# Altium integrated library Transistor.IntLib: 3457 symbols (part 34 of 78)
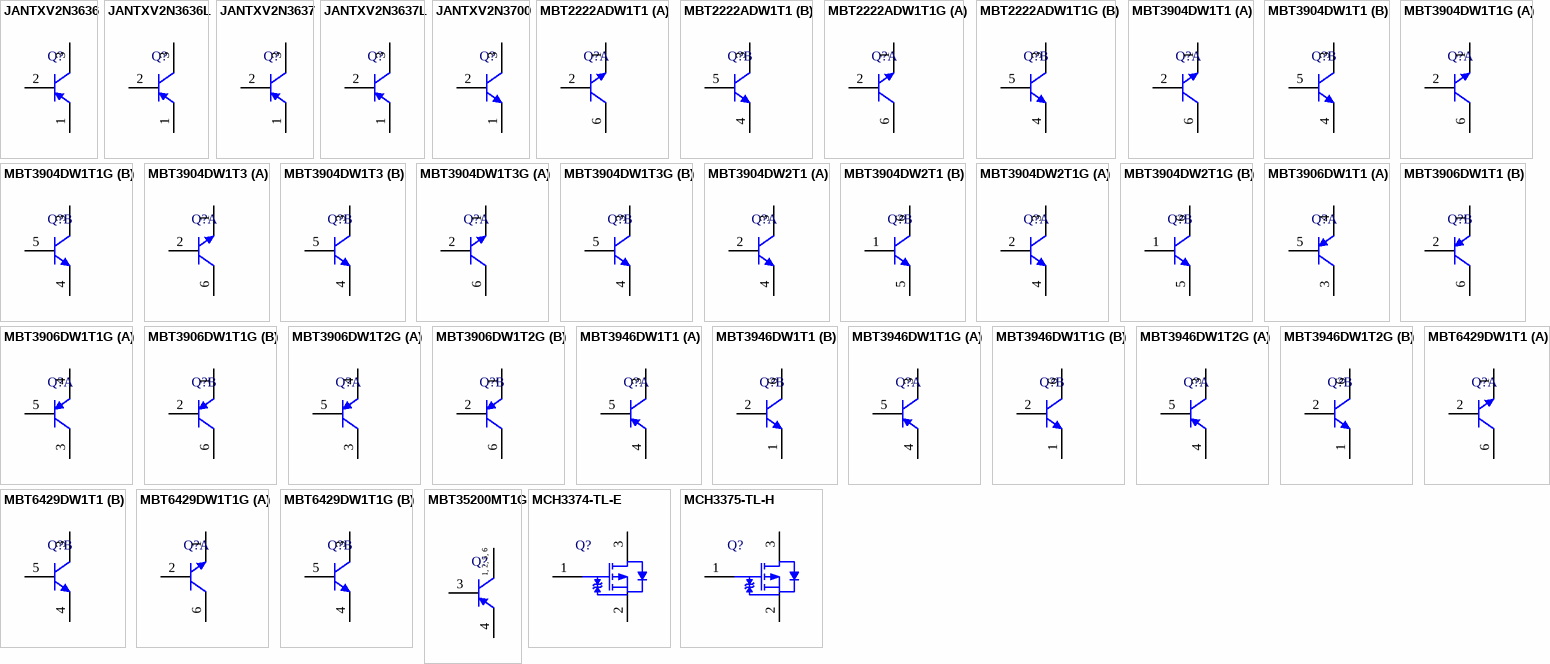
[diagram p127: symbols JANTXV2N3636 to MCH3375-TL-H]

## MBT3904DW2T1
designator Q?
Dual General Purpose Transistors, 6-Pin SOT-363, Tape and Reel; Manufacturer: On Semiconductor; PartNumber: MBT3904DW2T1; fT Min (MHz): 300; IC Continuous (A): 0.2; Polarity: Dual NPN; DatasheetVersion: Rev. 9; PackageVersion: Rev. W, 01/2006; PackageReference: SOT-363-6-419B-02_W; PackageDescription: 6-Pin Small Outline Transistor, Body 2 x 1.25 mm, Pitch 0.65 mm; Supplier 1: Digi-Key; Supplier Part Number 1: MBT3904DW2T1OS-ND; Supplier 2: Mouser; Supplier Part Number 2: 863-MBT3904DW2T1; Packing: Tape and Reel; RoHS: FALSE; Mounting Technology: Surface Mount; ComponentLink1Description: Manufacturer URL; ComponentLink1URL: http://www.onsemi.com/; ComponentLink2Description: Datasheet; ComponentLink2URL: http://www.onsemi.cn/pub_link/Collateral/MBT3904DW1T1-D.PDF; ComponentLink3Description: Package Specification; ComponentLink3URL: http://www.onsemi.com/pub_link/Collateral/NTJD4001N-D.PDF
footprint ONSC-SOT-363-6-419B-02_W_V (SOT23, 6-Leads, Body 2x1.25mm, Pitch 0.65mm)
part A pins: 2 B, 3 C, 4 E
part B pins: 1 B, 5 E, 6 C

## MBT3904DW2T1G
designator Q?
Dual General Purpose Transistors, 6-Pin SOT-363, Pb-Free, Tape and Reel; Manufacturer: On Semiconductor; PartNumber: MBT3904DW2T1G; fT Min (MHz): 300; IC Continuous (A): 0.2; Polarity: Dual NPN; DatasheetVersion: Rev. 9; PackageVersion: Rev. W, 01/2006; PackageReference: SOT-363-6-419B-02_W; PackageDescription: 6-Pin Small Outline Transistor, Body 2 x 1.25 mm, Pitch 0.65 mm; Supplier 1: Digi-Key; Supplier Part Number 1: MBT3904DW2T1GOS-ND; Supplier 2: Mouser; Supplier Part Number 2: 863-MBT3904DW2T1G; Packing: Tape and Reel; RoHS: TRUE; Mounting Technology: Surface Mount; ComponentLink1Description: Manufacturer URL; ComponentLink1URL: http://www.onsemi.com/; ComponentLink2Description: Datasheet; ComponentLink2URL: http://www.onsemi.cn/pub_link/Collateral/MBT3904DW1T1-D.PDF; ComponentLink3Description: Package Specification; ComponentLink3URL: http://www.onsemi.com/pub_link/Collateral/NTJD4001N-D.PDF
footprint ONSC-SOT-363-6-419B-02_W_V (SOT23, 6-Leads, Body 2x1.25mm, Pitch 0.65mm)
part A pins: 2 B, 3 C, 4 E
part B pins: 1 B, 5 E, 6 C

## MBT3906DW1T1
designator Q?
Dual General Purpose Transistors, 6-Pin SOT-363, Tape and Reel; Manufacturer: On Semiconductor; PartNumber: MBT3906DW1T1; fT Min (MHz): 250; IC Continuous (A): -0.2; Polarity: Dual PNP; DatasheetVersion: Rev. 5; PackageVersion: Rev. Y, 12/2012; PackageReference: SOT-363-6-419B-02; PackageDescription: 6-Pin Small Outline Transistor, Body 2 x 1.25 mm, Pitch 0.65 mm; Supplier 1: Digi-Key; Supplier Part Number 1: MBT3906DW1T1OSCT-ND; Packing: Tape and Reel; RoHS: FALSE; Mounting Technology: Surface Mount; ComponentLink1Description: Manufacturer URL; ComponentLink1URL: http://www.onsemi.com/; ComponentLink2Description: Datasheet; ComponentLink2URL: http://www.onsemi.com/pub_link/Collateral/MBT3906DW1T1-D.PDF; ComponentLink3Description: Package Specification; ComponentLink3URL: http://www.onsemi.cn/pub_link/Collateral/419B-02.PDF
footprint ONSC-SOT-363-6-419B-02_V (SOT23, 6-Leads, Body 2x1.25mm, Pitch 0.65mm)
part A pins: 3 C, 4 E, 5 B
part B pins: 1 E, 2 B, 6 C

## MBT3906DW1T1G
designator Q?
Dual General Purpose Transistors, 6-Pin SOT-363, Pb-Free, Tape and Reel; Manufacturer: On Semiconductor; PartNumber: MBT3906DW1T1G; fT Min (MHz): 250; IC Continuous (A): -0.2; Polarity: Dual PNP; DatasheetVersion: Rev. 5; PackageVersion: Rev. Y, 12/2012; PackageReference: SOT-363-6-419B-02; PackageDescription: 6-Pin Small Outline Transistor, Body 2 x 1.25 mm, Pitch 0.65 mm; Supplier 1: Digi-Key; Supplier Part Number 1: MBT3906DW1T1GOSTR-ND; Supplier 2: Digi-Key; Supplier Part Number 2: MBT3906DW1T1GOSCT-ND; Supplier 3: Digi-Key; Supplier Part Number 3: MBT3906DW1T1GOSDKR-ND; Supplier 4: Newark; Supplier Part Number 4: 88H4689; Supplier 5: Mouser; Supplier Part Number 5: 863-MBT3906DW1T1G; Packing: Tape and Reel; RoHS: TRUE; Mounting Technology: Surface Mount; ComponentLink1Description: Manufacturer URL; ComponentLink1URL: http://www.onsemi.com/; ComponentLink2Description: Datasheet; ComponentLink2URL: http://www.onsemi.com/pub_link/Collateral/MBT3906DW1T1-D.PDF; ComponentLink3Description: Package Specification; ComponentLink3URL: http://www.onsemi.cn/pub_link/Collateral/419B-02.PDF
footprint ONSC-SOT-363-6-419B-02_V (SOT23, 6-Leads, Body 2x1.25mm, Pitch 0.65mm)
part A pins: 3 C, 4 E, 5 B
part B pins: 1 E, 2 B, 6 C

## MBT3906DW1T2G
designator Q?
Dual General Purpose Transistors, 6-Pin SOT-363, Pb-Free, Tape and Reel; Manufacturer: On Semiconductor; PartNumber: MBT3906DW1T2G; fT Min (MHz): 250; IC Continuous (A): -0.2; Polarity: Dual PNP; DatasheetVersion: Rev. 5; PackageVersion: Rev. Y, 12/2012; PackageReference: SOT-363-6-419B-02; PackageDescription: 6-Pin Small Outline Transistor, Body 2 x 1.25 mm, Pitch 0.65 mm; Supplier 1: Newark; Supplier Part Number 1: 11X3284; Supplier 2: Mouser; Supplier Part Number 2: 863-MBT3906DW1T2G; Packing: Tape and Reel; RoHS: TRUE; Mounting Technology: Surface Mount; ComponentLink1Description: Manufacturer URL; ComponentLink1URL: http://www.onsemi.com/; ComponentLink2Description: Datasheet; ComponentLink2URL: http://www.onsemi.com/pub_link/Collateral/MBT3906DW1T1-D.PDF; ComponentLink3Description: Package Specification; ComponentLink3URL: http://www.onsemi.cn/pub_link/Collateral/419B-02.PDF
footprint ONSC-SOT-363-6-419B-02_V (SOT23, 6-Leads, Body 2x1.25mm, Pitch 0.65mm)
part A pins: 3 C, 4 E, 5 B
part B pins: 1 E, 2 B, 6 C

## MBT3946DW1T1
designator Q?
Complementary General Purpose Transistors, 6-Pin SC70, Tape and Reel; Manufacturer: On Semiconductor; PartNumber: MBT3946DW1T1; IC Continuous (A): 0.2; DatasheetVersion: Rev. 7; PackageVersion: Rev. W; PackageReference: SC70-6-419B-02_W; PackageDescription: 6-Pin Small Outline Transistor, Body 2 x 1.25 mm, Pitch 0.65 mm; Supplier 1: Digi-Key; Supplier Part Number 1: MBT3946DW1T1OSCT-ND; Packing: Tape and Reel; Polarity: Complementary; RoHS: FALSE; Mounting Technology: Surface Mount; ComponentLink1Description: Manufacturer URL; ComponentLink1URL: http://www.onsemi.com/; ComponentLink2Description: Datasheet; ComponentLink2URL: http://www.onsemi.com/pub_link/Collateral/MBT3946DW1T1-D.PDF; ComponentLink3Description: Package Specification; ComponentLink3URL: http://www.onsemi.com/pub_link/Collateral/SMF05C-D.PDF
footprint ONSC-SC70-6-419B-02_W_V (SOT23, 6-Leads, Body 2x1.25mm, Pitch 0.65mm)
part A pins: 3 C, 4 E, 5 B
part B pins: 1 E, 2 B, 6 C

## MBT3946DW1T1G
designator Q?
Complementary General Purpose Transistors, 6-Pin SC70, Pb-Free, Tape and Reel; Manufacturer: On Semiconductor; PartNumber: MBT3946DW1T1G; IC Continuous (A): 0.2; DatasheetVersion: Rev. 7; PackageVersion: Rev. W; PackageReference: SC70-6-419B-02_W; PackageDescription: 6-Pin Small Outline Transistor, Body 2 x 1.25 mm, Pitch 0.65 mm; Supplier 1: Digi-Key; Supplier Part Number 1: MBT3946DW1T1GOSTR-ND; Supplier 2: Digi-Key; Supplier Part Number 2: MBT3946DW1T1GOSCT-ND; Supplier 3: Digi-Key; Supplier Part Number 3: MBT3946DW1T1GOSDKR-ND; Supplier 4: Farnell; Supplier Part Number 4: 1459079; Supplier 5: Farnell; Supplier Part Number 5: 1459079RL; Supplier 6: Farnell; Supplier Part Number 6: 2370812; Supplier 7: Newark; Supplier Part Number 7: 83H7283; Supplier 8: Newark; Supplier Part Number 8: 67R1322; Supplier 9: Mouser; Supplier Part Number 9: 863-MBT3946DW1T1G; Packing: Tape and Reel; Polarity: Complementary; RoHS: TRUE; Mounting Technology: Surface Mount; ComponentLink1Description: Manufacturer URL; ComponentLink1URL: http://www.onsemi.com/; ComponentLink2Description: Datasheet; ComponentLink2URL: http://www.onsemi.com/pub_link/Collateral/MBT3946DW1T1-D.PDF; ComponentLink3Description: Package Specification; ComponentLink3URL: http://www.onsemi.com/pub_link/Collateral/SMF05C-D.PDF
footprint ONSC-SC70-6-419B-02_W_V (SOT23, 6-Leads, Body 2x1.25mm, Pitch 0.65mm)
part A pins: 3 C, 4 E, 5 B
part B pins: 1 E, 2 B, 6 C

## MBT3946DW1T2G
designator Q?
Complementary General Purpose Transistors, 6-Pin SC70, Pb-Free, Tape and Reel; Manufacturer: On Semiconductor; PartNumber: MBT3946DW1T2G; IC Continuous (A): 0.2; DatasheetVersion: Rev. 7; PackageVersion: Rev. W; PackageReference: SC70-6-419B-02_W; PackageDescription: 6-Pin Small Outline Transistor, Body 2 x 1.25 mm, Pitch 0.65 mm; Supplier 1: Digi-Key; Supplier Part Number 1: MBT3946DW1T2GOSTR-ND; Supplier 2: Digi-Key; Supplier Part Number 2: MBT3946DW1T2GOSCT-ND; Supplier 3: Digi-Key; Supplier Part Number 3: MBT3946DW1T2GOSDKR-ND; Supplier 4: Farnell; Supplier Part Number 4: 1890484; Supplier 5: Newark; Supplier Part Number 5: 09R9425; Supplier 6: Mouser; Supplier Part Number 6: 863-MBT3946DW1T2G; Packing: Tape and Reel; Polarity: Complementary; RoHS: TRUE; Mounting Technology: Surface Mount; ComponentLink1Description: Manufacturer URL; ComponentLink1URL: http://www.onsemi.com/; ComponentLink2Description: Datasheet; ComponentLink2URL: http://www.onsemi.com/pub_link/Collateral/MBT3946DW1T1-D.PDF; ComponentLink3Description: Package Specification; ComponentLink3URL: http://www.onsemi.com/pub_link/Collateral/SMF05C-D.PDF
footprint ONSC-SC70-6-419B-02_W_V (SOT23, 6-Leads, Body 2x1.25mm, Pitch 0.65mm)
part A pins: 3 C, 4 E, 5 B
part B pins: 1 E, 2 B, 6 C

## MBT6429DW1T1
designator Q?
Amplifier Transistor, NPN Silicon, 6-Pin SC70, Tape and Reel; Manufacturer: On Semiconductor; PartNumber: MBT6429DW1T1; fT Min (MHz): 100; IC Continuous (A): 0.2; Polarity: Dual NPN; DatasheetVersion: Rev. 3; PackageVersion: Rev. W; PackageReference: SC70-6-419B-02_W; PackageDescription: 6-Pin Small Outline Transistor, Body 2 x 1.25 mm, Pitch 0.65 mm; Supplier 1: Digi-Key; Supplier Part Number 1: MBT6429DW1T1-ND; Packing: Tape and Reel; RoHS: FALSE; Mounting Technology: Surface Mount; ComponentLink1Description: Manufacturer URL; ComponentLink1URL: http://www.onsemi.com/; ComponentLink2Description: Datasheet; ComponentLink2URL: http://www.onsemi.com/pub_link/Collateral/MBT6429DW1T1-D.PDF; ComponentLink3Description: Package Specification; ComponentLink3URL: http://www.onsemi.com/pub_link/Collateral/SMF05C-D.PDF
footprint ONSC-SC70-6-419B-02_W_V (SOT23, 6-Leads, Body 2x1.25mm, Pitch 0.65mm)
part A pins: 1 E, 2 B, 6 C
part B pins: 3 C, 4 E, 5 B

## MBT6429DW1T1G
designator Q?
Amplifier Transistor, NPN Silicon, 6-Pin SC70, Pb-Free, Tape and Reel; Manufacturer: On Semiconductor; PartNumber: MBT6429DW1T1G; fT Min (MHz): 100; IC Continuous (A): 0.2; Polarity: Dual NPN; DatasheetVersion: Rev. 3; PackageVersion: Rev. W; PackageReference: SC70-6-419B-02_W; PackageDescription: 6-Pin Small Outline Transistor, Body 2 x 1.25 mm, Pitch 0.65 mm; Supplier 1: Digi-Key; Supplier Part Number 1: MBT6429DW1T1GOSTR-ND; Supplier 2: Digi-Key; Supplier Part Number 2: MBT6429DW1T1GOSCT-ND; Supplier 3: Digi-Key; Supplier Part Number 3: MBT6429DW1T1GOSDKR-ND; Supplier 4: Newark; Supplier Part Number 4: 45J0811; Supplier 5: Mouser; Supplier Part Number 5: 863-MBT6429DW1T1G; Packing: Tape and Reel; RoHS: TRUE; Mounting Technology: Surface Mount; ComponentLink1Description: Manufacturer URL; ComponentLink1URL: http://www.onsemi.com/; ComponentLink2Description: Datasheet; ComponentLink2URL: http://www.onsemi.com/pub_link/Collateral/MBT6429DW1T1-D.PDF; ComponentLink3Description: Package Specification; ComponentLink3URL: http://www.onsemi.com/pub_link/Collateral/SMF05C-D.PDF
footprint ONSC-SC70-6-419B-02_W_V (SOT23, 6-Leads, Body 2x1.25mm, Pitch 0.65mm)
part A pins: 1 E, 2 B, 6 C
part B pins: 3 C, 4 E, 5 B

## MBT35200MT1G
designator Q?
High Current Surface Mount PNP Silicon Switching Transistor for Load Management in Portable Application, 6-Pin TSOP, Pb-Free, Tape and Reel; Manufacturer: On Semiconductor; PartNumber: MBT35200MT1G; fT Min (MHz): 100; IC Continuous (A): -2; DatasheetVersion: Rev. 5; PackageVersion: Rev. V, 06/2012; PackageReference: TSOP-6-318G-02; PackageDescription: 6-Pin Small Outline Package, Body 3 x 1.5 mm, Pitch 0.95 mm; Supplier 1: Digi-Key; Supplier Part Number 1: MBT35200MT1GOSTR-ND; Supplier 2: Digi-Key; Supplier Part Number 2: MBT35200MT1GOSCT-ND; Supplier 3: Digi-Key; Supplier Part Number 3: MBT35200MT1GOSDKR-ND; Supplier 4: Newark; Supplier Part Number 4: 45J0809; Supplier 5: Mouser; Supplier Part Number 5: 863-MBT35200MT1G; Packing: Tape and Reel; Polarity: PNP; RoHS: TRUE; Mounting Technology: Surface Mount; ComponentLink1Description: Manufacturer URL; ComponentLink1URL: http://www.onsemi.com/; ComponentLink2Description: Datasheet; ComponentLink2URL: http://www.onsemi.com/pub_link/Collateral/MBT35200MT1-D.PDF; ComponentLink3Description: Package Specification; ComponentLink3URL: http://www.onsemi.com/pub_link/Collateral/318G-02.PDF
footprint ONSC-TSOP-6-318G-02_V (SOP, 6-Leads, Body 3x1.5mm, Pitch 0.95mm)
pins: 1 C, 2 C, 3 B, 4 E, 5 C, 6 C
text: 1, 2, 5, 6

## MCH3374-TL-E
designator Q?
P-Channel Power MOSFET, -12 V, -3 A, 70 mOhm, 3-Pin MCPH, Pb-Free, Tape and Reel; Manufacturer: On Semiconductor; PartNumber: MCH3374-TL-E; Channel Polarity: P Channel; Ciss Typ (pF): 405; Configuration: Single; Coss Typ (pF): 145; Crss Typ (pF): 100; ID Max (A): 3; PD Max (W): 1; V(BR)DSS Min (V): 12; VGS Max (V): 8; VGS(th) Max (V): 1.4; PackageReference: MCPH-3; PackageDescription: 3-Pin Small Outline Transistor, Body 2 x 1.6 mm, Pitch 0.65 mm; Supplier 1: Digi-Key; Supplier Part Number 1: MCH3374-TL-E-ND; Supplier 2: Mouser; Supplier Part Number 2: 863-MCH3374-TL-E; Package Type: SC-70FL / MCPH-3; Packing: Tape and Reel; RoHS: Pb-Free; Mounting Technology: Surface Mount; ComponentLink1Description: Manufacturer URL; ComponentLink1URL: http://www.onsemi.com/; ComponentLink2Description: Datasheet; ComponentLink2URL: http://www.onsemi.cn/pub_link/Collateral/MCH3374-D.PDF; ComponentLink3Description: Package Specification; ComponentLink3URL: http://www.onsemi.com/pub_link/Collateral/EN7354-D.PDF
footprint ONSC-MCPH-3_V (SOT23, 3-Leads, Body 2x1.6mm, Pitch 0.65mm)
pins: 1 G, 2 S, 3 D

## MCH3375-TL-H
designator Q?
P-Channel Power MOSFET, -30 V, -1.6 A, 295 mOhm, 3-Pin MCPH, Pb-Free, Tape and Reel; Manufacturer: On Semiconductor; PartNumber: MCH3375-TL-H; Channel Polarity: P Channel; Ciss Typ (pF): 82; Configuration: Single; Coss Typ (pF): 22; Crss Typ (pF): 16; ID Max (A): 1.6; PD Max (W): 0.8; V(BR)DSS Min (V): 30; VGS Max (V): 20; VGS(th) Max (V): 2.6; PackageReference: MCPH-3; PackageDescription: 3-Pin Small Outline Transistor, Body 2 x 1.6 mm, Pitch 0.65 mm; Supplier 1: Digi-Key; Supplier Part Number 1: MCH3375-TL-H-ND; Supplier 2: Newark; Supplier Part Number 2: 07W7065; Supplier 3: Mouser; Supplier Part Number 3: 863-MCH3375-TL-H; Package Type: SC-70FL / MCPH-3; Packing: Tape and Reel; RoHS: Pb-Free; Mounting Technology: Surface Mount; ComponentLink1Description: Manufacturer URL; ComponentLink1URL: http://www.onsemi.com/; ComponentLink2Description: Datasheet; ComponentLink2URL: http://www.onsemi.com/pub_link/Collateral/ENA0342-D.PDF; ComponentLink3Description: Package Specification; ComponentLink3URL: http://www.onsemi.com/pub_link/Collateral/EN7354-D.PDF
footprint ONSC-MCPH-3_V (SOT23, 3-Leads, Body 2x1.6mm, Pitch 0.65mm)
pins: 1 G, 2 S, 3 D

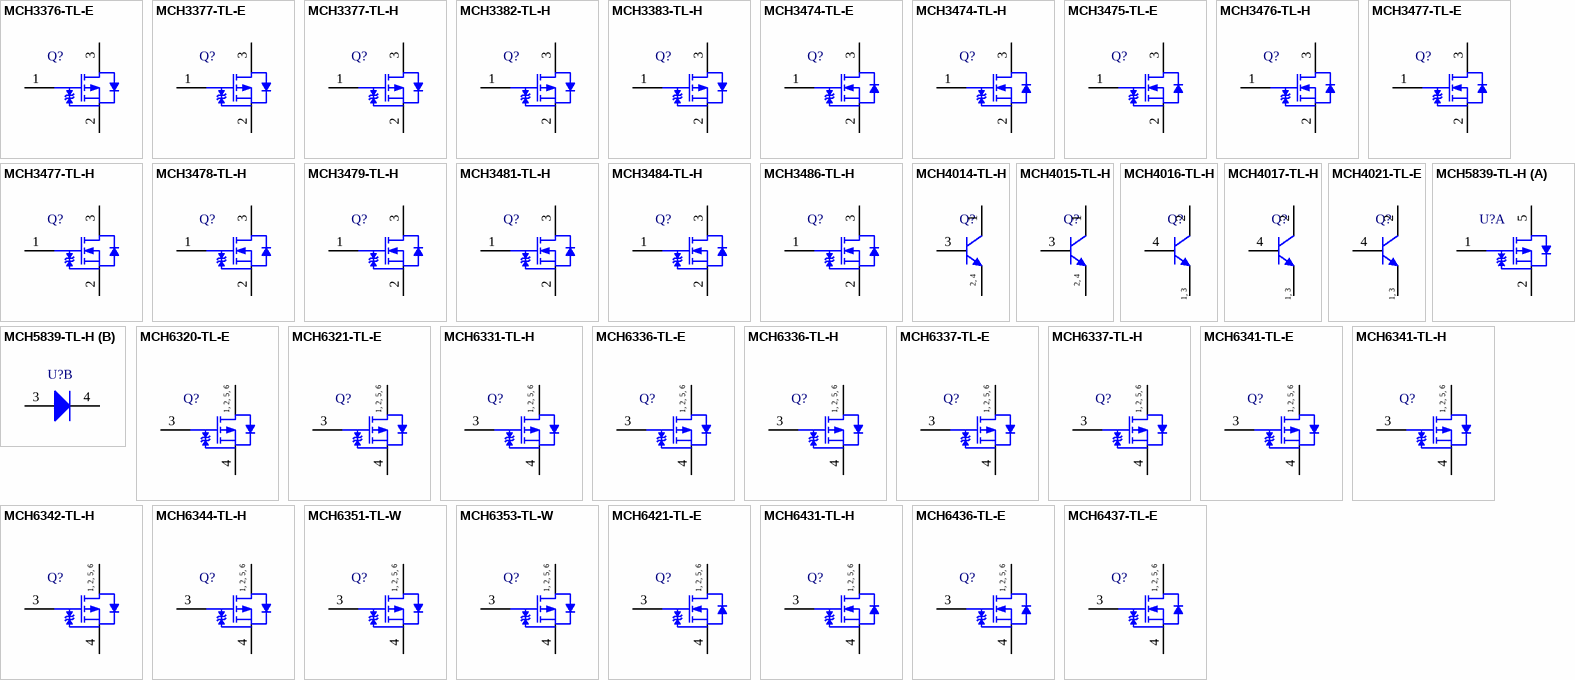
[diagram p40: symbols MCH3376-TL-E to MCH6437-TL-E]

## MCH3376-TL-E
designator Q?
P-Channel Power MOSFET, -20 V, -1.5 A, 241 mOhm, 3-Pin MCPH, Pb-Free, Tape and Reel; Manufacturer: On Semiconductor; PartNumber: MCH3376-TL-E; Channel Polarity: P Channel; Ciss Typ (pF): 120; Configuration: Single; Coss Typ (pF): 26; Crss Typ (pF): 20; ID Max (A): 1.5; PD Max (W): 0.8; VGS Max (V): 10; VGS(th) Max (V): 1.4; PackageReference: MCPH-3; PackageDescription: 3-Pin Small Outline Transistor, Body 2 x 1.6 mm, Pitch 0.65 mm; Supplier 1: Digi-Key; Supplier Part Number 1: MCH3376-TL-E-ND; Supplier 2: Mouser; Supplier Part Number 2: 863-MCH3376-TL-E; Package Type: SC-70FL / MCPH-3; Packing: Tape and Reel; RoHS: Pb-Free; V(BR)DSS Min (V): 20; Mounting Technology: Surface Mount; ComponentLink1Description: Manufacturer URL; ComponentLink1URL: http://www.onsemi.com/; ComponentLink2Description: Datasheet; ComponentLink2URL: http://www.onsemi.cn/pub_link/Collateral/ENA1564-D.PDF; ComponentLink3Description: Package Specification; ComponentLink3URL: http://www.onsemi.com/pub_link/Collateral/EN7354-D.PDF
footprint ONSC-MCPH-3_V (SOT23, 3-Leads, Body 2x1.6mm, Pitch 0.65mm)
pins: 1 G, 2 S, 3 D

## MCH3377-TL-E
designator Q?
P-Channel Power MOSFET, -20 V, -3 A, 83 mOhm, 3-Pin MCPH, Pb-Free, Tape and Reel; Manufacturer: On Semiconductor; PartNumber: MCH3377-TL-E; Channel Polarity: P Channel; Ciss Typ (pF): 375; Configuration: Single; Coss Typ (pF): 77; Crss Typ (pF): 58; ID Max (A): 3; PD Max (W): 1; V(BR)DSS Min (V): 20; VGS Max (V): 10; VGS(th) Max (V): 1.3; PackageReference: MCPH-3; PackageDescription: 3-Pin Small Outline Transistor, Body 2 x 1.6 mm, Pitch 0.65 mm; Supplier 1: Digi-Key; Supplier Part Number 1: 869-1169-2-ND; Supplier 2: Digi-Key; Supplier Part Number 2: 869-1169-1-ND; Supplier 3: Digi-Key; Supplier Part Number 3: 869-1169-6-ND; Supplier 4: Mouser; Supplier Part Number 4: 863-MCH3377-TL-E; Package Type: SC-70FL / MCPH-3; Packing: Tape and Reel; RoHS: Pb-Free; Mounting Technology: Surface Mount; ComponentLink1Description: Manufacturer URL; ComponentLink1URL: http://www.onsemi.com/; ComponentLink2Description: Datasheet; ComponentLink2URL: http://www.onsemi.cn/pub_link/Collateral/MCH3377-D.PDF; ComponentLink3Description: Package Specification; ComponentLink3URL: http://www.onsemi.com/pub_link/Collateral/EN7354-D.PDF
footprint ONSC-MCPH-3_V (SOT23, 3-Leads, Body 2x1.6mm, Pitch 0.65mm)
pins: 1 G, 2 S, 3 D

## MCH3377-TL-H
designator Q?
P-Channel Power MOSFET, -20 V, -3 A, 83 mOhm, 3-Pin MCPH, Pb-Free, Tape and Reel; Manufacturer: On Semiconductor; PartNumber: MCH3377-TL-H; Channel Polarity: P Channel; Ciss Typ (pF): 375; Configuration: Single; Coss Typ (pF): 77; Crss Typ (pF): 58; ID Max (A): 3; PD Max (W): 1; V(BR)DSS Min (V): 20; VGS Max (V): 10; VGS(th) Max (V): 1.3; PackageReference: MCPH-3; PackageDescription: 3-Pin Small Outline Transistor, Body 2 x 1.6 mm, Pitch 0.65 mm; Supplier 1: Digi-Key; Supplier Part Number 1: MCH3377-TL-H-ND; Supplier 2: Mouser; Supplier Part Number 2: 863-MCH3377-TL-H; Package Type: SC-70FL / MCPH-3; Packing: Tape and Reel; RoHS: Pb-Free; Mounting Technology: Surface Mount; ComponentLink1Description: Manufacturer URL; ComponentLink1URL: http://www.onsemi.com/; ComponentLink2Description: Datasheet; ComponentLink2URL: http://www.onsemi.cn/pub_link/Collateral/MCH3377-D.PDF; ComponentLink3Description: Package Specification; ComponentLink3URL: http://www.onsemi.com/pub_link/Collateral/EN7354-D.PDF
footprint ONSC-MCPH-3_V (SOT23, 3-Leads, Body 2x1.6mm, Pitch 0.65mm)
pins: 1 G, 2 S, 3 D

## MCH3382-TL-H
designator Q?
P-Channel Power MOSFET, -12 V, -2 A, 198 mOhm, 3-Pin MCPH, Pb-Free, Tape and Reel; Manufacturer: On Semiconductor; PartNumber: MCH3382-TL-H; Channel Polarity: P Channel; Ciss Typ (pF): 170; Configuration: Single; Coss Typ (pF): 50; Crss Typ (pF): 40; ID Max (A): 2; PD Max (W): 0.8; V(BR)DSS Min (V): 12; VGS Max (V): 9; VGS(th) Max (V): 0.9; PackageReference: MCPH-3; PackageDescription: 3-Pin Small Outline Transistor, Body 2 x 1.6 mm, Pitch 0.65 mm; Supplier 1: Digi-Key; Supplier Part Number 1: MCH3382-TL-H-ND; Supplier 2: Mouser; Supplier Part Number 2: 863-MCH3382-TL-H; Package Type: SC-70FL / MCPH-3; Packing: Tape and Reel; RoHS: Pb-Free; Mounting Technology: Surface Mount; ComponentLink1Description: Manufacturer URL; ComponentLink1URL: http://www.onsemi.com/; ComponentLink2Description: Datasheet; ComponentLink2URL: http://www.onsemi.cn/pub_link/Collateral/ENA1766-D.PDF; ComponentLink3Description: Package Specification; ComponentLink3URL: http://www.onsemi.com/pub_link/Collateral/EN7354-D.PDF
footprint ONSC-MCPH-3_V (SOT23, 3-Leads, Body 2x1.6mm, Pitch 0.65mm)
pins: 1 G, 2 S, 3 D

## MCH3383-TL-H
designator Q?
P-Channel Power MOSFET, -12 V, -3.5 A, 69 mOhm, 3-Pin MCPH, Pb-Free, Tape and Reel; Manufacturer: On Semiconductor; PartNumber: MCH3383-TL-H; Channel Polarity: P Channel; Ciss Typ (pF): 1010; Configuration: Single; Coss Typ (pF): 130; Crss Typ (pF): 85; ID Max (A): 3.5; PD Max (W): 1; V(BR)DSS Min (V): 12; VGS Max (V): 5; VGS(th) Max (V): 0.8; PackageReference: MCPH-3; PackageDescription: 3-Pin Small Outline Transistor, Body 2 x 1.6 mm, Pitch 0.65 mm; Supplier 1: Digi-Key; Supplier Part Number 1: MCH3383-TL-H-ND; Supplier 2: Newark; Supplier Part Number 2: 52T8086; Supplier 3: Mouser; Supplier Part Number 3: 863-MCH3383-TL-H; Package Type: SC-70FL / MCPH-3; Packing: Tape and Reel; RoHS: Pb-Free; Mounting Technology: Surface Mount; ComponentLink1Description: Manufacturer URL; ComponentLink1URL: http://www.onsemi.com/; ComponentLink2Description: Datasheet; ComponentLink2URL: http://www.onsemi.cn/pub_link/Collateral/MCH3383-D.PDF; ComponentLink3Description: Package Specification; ComponentLink3URL: http://www.onsemi.com/pub_link/Collateral/EN7354-D.PDF
footprint ONSC-MCPH-3_V (SOT23, 3-Leads, Body 2x1.6mm, Pitch 0.65mm)
pins: 1 G, 2 S, 3 D

## MCH3474-TL-E
designator Q?
N-Channel Power MOSFET, 30 V, 4 A, 50 mOhm, 3-Pin MCPH, Pb-Free, Tape and Reel; Manufacturer: On Semiconductor; PartNumber: MCH3474-TL-E; Channel Polarity: N Channel; Ciss Typ (pF): 430; Configuration: Single; Coss Typ (pF): 59; Crss Typ (pF): 38; ID Max (A): 4; PD Max (W): 1; V(BR)DSS Min (V): 30; VGS Max (V): 12; VGS(th) Max (V): 1.3; PackageReference: MCPH-3; PackageDescription: 3-Pin Small Outline Transistor, Body 2 x 1.6 mm, Pitch 0.65 mm; Supplier 1: Digi-Key; Supplier Part Number 1: MCH3474-TL-E-ND; Supplier 2: Mouser; Supplier Part Number 2: 863-MCH3474-TL-E; Package Type: SC-70FL / MCPH-3; Packing: Tape and Reel; RoHS: Pb-Free; Mounting Technology: Surface Mount; ComponentLink1Description: Manufacturer URL; ComponentLink1URL: http://www.onsemi.com/; ComponentLink2Description: Datasheet; ComponentLink2URL: http://www.onsemi.com/PowerSolutions/product.do?id=MCH3474; ComponentLink3Description: Package Specification; ComponentLink3URL: http://www.onsemi.com/pub_link/Collateral/EN7354-D.PDF
footprint ONSC-MCPH-3_V (SOT23, 3-Leads, Body 2x1.6mm, Pitch 0.65mm)
pins: 1 G, 2 S, 3 D

## MCH3474-TL-H
designator Q?
N-Channel Power MOSFET, 30 V, 4 A, 50 mOhm, 3-Pin MCPH, Pb-Free, Tape and Reel; Manufacturer: On Semiconductor; PartNumber: MCH3474-TL-H; Channel Polarity: N Channel; Ciss Typ (pF): 430; Configuration: Single; Coss Typ (pF): 59; Crss Typ (pF): 38; ID Max (A): 4; PD Max (W): 1; V(BR)DSS Min (V): 30; VGS Max (V): 12; VGS(th) Max (V): 1.3; PackageReference: MCPH-3; PackageDescription: 3-Pin Small Outline Transistor, Body 2 x 1.6 mm, Pitch 0.65 mm; Supplier 1: Digi-Key; Supplier Part Number 1: MCH3474-TL-H-ND; Supplier 2: Mouser; Supplier Part Number 2: 863-MCH3474-TL-H; Package Type: SC-70FL / MCPH-3; Packing: Tape and Reel; RoHS: Pb-Free; Mounting Technology: Surface Mount; ComponentLink1Description: Manufacturer URL; ComponentLink1URL: http://www.onsemi.com/; ComponentLink2Description: Datasheet; ComponentLink2URL: http://www.onsemi.com/PowerSolutions/product.do?id=MCH3474; ComponentLink3Description: Package Specification; ComponentLink3URL: http://www.onsemi.com/pub_link/Collateral/EN7354-D.PDF
footprint ONSC-MCPH-3_V (SOT23, 3-Leads, Body 2x1.6mm, Pitch 0.65mm)
pins: 1 G, 2 S, 3 D

## MCH3475-TL-E
designator Q?
N-Channel Power MOSFET, 30 V, 1.8 A, 180 mOhm, 3-Pin MCPH, Pb-Free, Tape and Reel; Manufacturer: On Semiconductor; PartNumber: MCH3475-TL-E; Channel Polarity: N Channel; Ciss Typ (pF): 88; Configuration: Single; Coss Typ (pF): 19; Crss Typ (pF): 11; ID Max (A): 1.8; PD Max (W): 0.8; V(BR)DSS Min (V): 30; VGS Max (V): 20; VGS(th) Max (V): 2.6; PackageReference: MCPH-3; PackageDescription: 3-Pin Small Outline Transistor, Body 2 x 1.6 mm, Pitch 0.65 mm; Supplier 1: Digi-Key; Supplier Part Number 1: 869-1172-2-ND; Supplier 2: Digi-Key; Supplier Part Number 2: 869-1172-1-ND; Supplier 3: Digi-Key; Supplier Part Number 3: 869-1172-6-ND; Supplier 4: Mouser; Supplier Part Number 4: 863-MCH3475-TL-E; Package Type: SC-70FL / MCPH-3; Packing: Tape and Reel; RoHS: Pb-Free; Mounting Technology: Surface Mount; ComponentLink1Description: Manufacturer URL; ComponentLink1URL: http://www.onsemi.com/; ComponentLink2Description: Datasheet; ComponentLink2URL: http://www.onsemi.cn/pub_link/Collateral/MCH3475-D.PDF; ComponentLink3Description: Package Specification; ComponentLink3URL: http://www.onsemi.com/pub_link/Collateral/EN7354-D.PDF
footprint ONSC-MCPH-3_V (SOT23, 3-Leads, Body 2x1.6mm, Pitch 0.65mm)
pins: 1 G, 2 S, 3 D

## MCH3476-TL-H
designator Q?
N-Channel Power MOSFET, 20 V, 2 A, 125 mOhm, 3-Pin MCPH, Pb-Free, Tape and Reel; Manufacturer: On Semiconductor; PartNumber: MCH3476-TL-H; Channel Polarity: N Channel; Ciss Typ (pF): 128; Configuration: Single; Coss Typ (pF): 28; Crss Typ (pF): 21; ID Max (A): 2; PD Max (W): 0.8; V(BR)DSS Min (V): 20; VGS Max (V): 12; VGS(th) Max (V): 1.3; PackageReference: MCPH-3; PackageDescription: 3-Pin Small Outline Transistor, Body 2 x 1.6 mm, Pitch 0.65 mm; Supplier 1: Digi-Key; Supplier Part Number 1: MCH3476-TL-H-ND; Supplier 2: Mouser; Supplier Part Number 2: 863-MCH3476-TL-H; Package Type: SC-70FL / MCPH-3; Packing: Tape and Reel; RoHS: Pb-Free; Mounting Technology: Surface Mount; ComponentLink1Description: Manufacturer URL; ComponentLink1URL: http://www.onsemi.com/; ComponentLink2Description: Datasheet; ComponentLink2URL: http://www.onsemi.cn/pub_link/Collateral/MCH3476.PDF; ComponentLink3Description: Package Specification; ComponentLink3URL: http://www.onsemi.com/pub_link/Collateral/EN7354-D.PDF
footprint ONSC-MCPH-3_V (SOT23, 3-Leads, Body 2x1.6mm, Pitch 0.65mm)
pins: 1 G, 2 S, 3 D

## MCH3477-TL-E
designator Q?
N-Channel Power MOSFET, 20 V, 4.5 A, 38 mOhm, 3-Pin MCPH, Pb-Free, Tape and Reel; Manufacturer: On Semiconductor; PartNumber: MCH3477-TL-E; Channel Polarity: N Channel; Ciss Typ (pF): 410; Configuration: Single; Coss Typ (pF): 84; Crss Typ (pF): 59; ID Max (A): 4.5; PD Max (W): 1; V(BR)DSS Min (V): 20; VGS Max (V): 12; VGS(th) Max (V): 1.3; PackageReference: MCPH-3; PackageDescription: 3-Pin Small Outline Transistor, Body 2 x 1.6 mm, Pitch 0.65 mm; Supplier 1: Digi-Key; Supplier Part Number 1: MCH3477-TL-E-ND; Supplier 2: Mouser; Supplier Part Number 2: 863-MCH3477-TL-E; Package Type: SC-70FL / MCPH-3; Packing: Tape and Reel; RoHS: Pb-Free; Mounting Technology: Surface Mount; ComponentLink1Description: Manufacturer URL; ComponentLink1URL: http://www.onsemi.com/; ComponentLink2Description: Datasheet; ComponentLink2URL: http://www.onsemi.com/pub_link/Collateral/MCH3477-D.PDF; ComponentLink3Description: Package Specification; ComponentLink3URL: http://www.onsemi.com/pub_link/Collateral/EN7354-D.PDF
footprint ONSC-MCPH-3_V (SOT23, 3-Leads, Body 2x1.6mm, Pitch 0.65mm)
pins: 1 G, 2 S, 3 D

## MCH3477-TL-H
designator Q?
N-Channel Power MOSFET, 20 V, 4.5 A, 38 mOhm, 3-Pin MCPH, Pb-Free, Tape and Reel; Manufacturer: On Semiconductor; PartNumber: MCH3477-TL-H; Channel Polarity: N Channel; Ciss Typ (pF): 410; Configuration: Single; Coss Typ (pF): 84; Crss Typ (pF): 59; ID Max (A): 4.5; PD Max (W): 1; V(BR)DSS Min (V): 20; VGS Max (V): 12; VGS(th) Max (V): 1.3; PackageReference: MCPH-3; PackageDescription: 3-Pin Small Outline Transistor, Body 2 x 1.6 mm, Pitch 0.65 mm; Supplier 1: Digi-Key; Supplier Part Number 1: MCH3477-TL-H-ND; Supplier 2: Mouser; Supplier Part Number 2: 863-MCH3477-TL-H; Package Type: SC-70FL / MCPH-3; Packing: Tape and Reel; RoHS: Pb-Free; Mounting Technology: Surface Mount; ComponentLink1Description: Manufacturer URL; ComponentLink1URL: http://www.onsemi.com/; ComponentLink2Description: Datasheet; ComponentLink2URL: http://www.onsemi.com/pub_link/Collateral/MCH3477-D.PDF; ComponentLink3Description: Package Specification; ComponentLink3URL: http://www.onsemi.com/pub_link/Collateral/EN7354-D.PDF
footprint ONSC-MCPH-3_V (SOT23, 3-Leads, Body 2x1.6mm, Pitch 0.65mm)
pins: 1 G, 2 S, 3 D

## MCH3478-TL-H
designator Q?
N-Channel Power MOSFET, 30 V, 2 A, 165 mOhm, 3-Pin MCPH, Pb-Free, Tape and Reel; Manufacturer: On Semiconductor; PartNumber: MCH3478-TL-H; Channel Polarity: N Channel; Ciss Typ (pF): 130; Configuration: Single; Coss Typ (pF): 21; Crss Typ (pF): 14; V(BR)DSS Min (V): 30; VGS Max (V): 12; VGS(th) Max (V): 1.3; PackageReference: MCPH-3; PackageDescription: 3-Pin Small Outline Transistor, Body 2 x 1.6 mm, Pitch 0.65 mm; Supplier 1: Digi-Key; Supplier Part Number 1: MCH3478-TL-H-ND; Supplier 2: Mouser; Supplier Part Number 2: 863-MCH3478-TL-H; Package Type: SC-70FL / MCPH-3; Packing: Tape and Reel; RoHS: Pb-Free; Mounting Technology: Surface Mount; ComponentLink1Description: Manufacturer URL; ComponentLink1URL: http://www.onsemi.com/; ComponentLink2Description: Datasheet; ComponentLink2URL: http://www.onsemi.cn/pub_link/Collateral/ENAA1353-D.PDF; ComponentLink3Description: Package Specification; ComponentLink3URL: http://www.onsemi.com/pub_link/Collateral/EN7354-D.PDF
footprint ONSC-MCPH-3_V (SOT23, 3-Leads, Body 2x1.6mm, Pitch 0.65mm)
pins: 1 G, 2 S, 3 D

## MCH3479-TL-H
designator Q?
N-Channel Power MOSFET, 20 V, 3.5 A, 64 mOhm, 3-Pin MCPH, Pb-Free, Tape and Reel; Manufacturer: On Semiconductor; PartNumber: MCH3479-TL-H; Channel Polarity: N Channel; Ciss Typ (pF): 260; Configuration: Single; Coss Typ (pF): 65; Crss Typ (pF): 50; ID Max (A): 3.5; PD Max (W): 0.9; V(BR)DSS Min (V): 20; VGS Max (V): 12; VGS(th) Max (V): 1.3; PackageReference: MCPH-3; PackageDescription: 3-Pin Small Outline Transistor, Body 2 x 1.6 mm, Pitch 0.65 mm; Supplier 1: Digi-Key; Supplier Part Number 1: MCH3479-TL-H-ND; Supplier 2: Mouser; Supplier Part Number 2: 863-MCH3479-TL-H; Package Type: SC-70FL / MCPH-3; Packing: Tape and Reel; RoHS: Pb-Free; Mounting Technology: Surface Mount; ComponentLink1Description: Manufacturer URL; ComponentLink1URL: http://www.onsemi.com/; ComponentLink2Description: Datasheet; ComponentLink2URL: http://www.onsemi.cn/pub_link/Collateral/ENA1813-D.PDF; ComponentLink3Description: Package Specification; ComponentLink3URL: http://www.onsemi.com/pub_link/Collateral/EN7354-D.PDF
footprint ONSC-MCPH-3_V (SOT23, 3-Leads, Body 2x1.6mm, Pitch 0.65mm)
pins: 1 G, 2 S, 3 D

## MCH3481-TL-H
designator Q?
N-Channel Power MOSFET, 20 V, 2 A, 104 mOhm, 3-Pin MCPH, Pb-Free, Tape and Reel; Manufacturer: On Semiconductor; PartNumber: MCH3481-TL-H; Channel Polarity: N Channel; Ciss Typ (pF): 175; Configuration: Single; Coss Typ (pF): 30; Crss Typ (pF): 25; ID Max (A): 2; PD Max (W): 0.8; V(BR)DSS Min (V): 20; VGS Max (V): 9; VGS(th) Max (V): 0.9; PackageReference: MCPH-3; PackageDescription: 3-Pin Small Outline Transistor, Body 2 x 1.6 mm, Pitch 0.65 mm; Supplier 1: Digi-Key; Supplier Part Number 1: MCH3481-TL-H-ND; Supplier 2: Newark; Supplier Part Number 2: 07W7072; Supplier 3: Mouser; Supplier Part Number 3: 863-MCH3481-TL-H; Package Type: SC-70FL / MCPH-3; Packing: Tape and Reel; RoHS: Pb-Free; Mounting Technology: Surface Mount; ComponentLink1Description: Manufacturer URL; ComponentLink1URL: http://www.onsemi.com/; ComponentLink2Description: Datasheet; ComponentLink2URL: http://www.onsemi.com/pub_link/Collateral/ENA1767-D.PDF; ComponentLink3Description: Package Specification; ComponentLink3URL: http://www.onsemi.com/pub_link/Collateral/EN7354-D.PDF
footprint ONSC-MCPH-3_V (SOT23, 3-Leads, Body 2x1.6mm, Pitch 0.65mm)
pins: 1 G, 2 S, 3 D

## MCH3484-TL-H
designator Q?
N-Channel Power MOSFET, 20 V, 4.5 A, 40 mOhm, 3-Pin MCPH, Pb-Free, Tape and Reel; Manufacturer: On Semiconductor; PartNumber: MCH3484-TL-H; Channel Polarity: N Channel; Ciss Typ (pF): 630; Configuration: Single; Coss Typ (pF): 75; Crss Typ (pF): 65; ID Max (A): 4.5; PD Max (W): 1; V(BR)DSS Min (V): 20; VGS Max (V): 5; VGS(th) Max (V): 0.8; PackageReference: MCPH-3; PackageDescription: 3-Pin Small Outline Transistor, Body 2 x 1.6 mm, Pitch 0.65 mm; Supplier 1: Digi-Key; Supplier Part Number 1: MCH3484-TL-H-ND; Supplier 2: Mouser; Supplier Part Number 2: 863-MCH3484-TL-H; Package Type: SC-70FL / MCPH-3; Packing: Tape and Reel; RoHS: Pb-Free; Mounting Technology: Surface Mount; ComponentLink1Description: Manufacturer URL; ComponentLink1URL: http://www.onsemi.com/; ComponentLink2Description: Datasheet; ComponentLink2URL: http://www.onsemi.cn/pub_link/Collateral/ENA1883-D.PDF; ComponentLink3Description: Package Specification; ComponentLink3URL: http://www.onsemi.com/pub_link/Collateral/EN7354-D.PDF
footprint ONSC-MCPH-3_V (SOT23, 3-Leads, Body 2x1.6mm, Pitch 0.65mm)
pins: 1 G, 2 S, 3 D

## MCH3486-TL-H
designator Q?
N-Channel Power MOSFET, 60 V, 2 A, 137 mOhm, 3-Pin MCPH, Pb-Free, Tape and Reel; Manufacturer: On Semiconductor; PartNumber: MCH3486-TL-H; Channel Polarity: N Channel; Ciss Typ (pF): 310; Configuration: Single; Coss Typ (pF): 40; Crss Typ (pF): 25; ID Max (A): 2; PD Max (W): 1; V(BR)DSS Min (V): 60; VGS Max (V): 20; VGS(th) Max (V): 2.6; PackageReference: MCPH-3; PackageDescription: 3-Pin Small Outline Transistor, Body 2 x 1.6 mm, Pitch 0.65 mm; Supplier 1: Newark; Supplier Part Number 1: 97W6144; Supplier 2: Mouser; Supplier Part Number 2: 863-MCH3486-TL-H; Package Type: SC-70FL / MCPH-3; Packing: Tape and Reel; RoHS: Pb-Free; Mounting Technology: Surface Mount; ComponentLink1Description: Manufacturer URL; ComponentLink1URL: http://www.onsemi.com/; ComponentLink2Description: Datasheet; ComponentLink2URL: http://www.onsemi.com/pub_link/Collateral/ENA2188-D.PDF; ComponentLink3Description: Package Specification; ComponentLink3URL: http://www.onsemi.com/pub_link/Collateral/EN7354-D.PDF
footprint ONSC-MCPH-3_V (SOT23, 3-Leads, Body 2x1.6mm, Pitch 0.65mm)
pins: 1 G, 2 S, 3 D

## MCH4014-TL-H
designator Q?
RF Transistor, 12 V, 30 mA, fT=10 GHz, NPN Single, 4-Pin MCPH, Pb-Free, Tape and Reel; Manufacturer: On Semiconductor; PartNumber: MCH4014-TL-H; fT Min (MHz): 8000; IC Continuous (A): 0.03; PackageReference: MCPH-4; PackageDescription: 4-Pin Small Outline Transistor, Body 2 x 1.6 mm, Pitch 0.65 mm; Supplier 1: Digi-Key; Supplier Part Number 1: MCH4014-TL-H-ND; Supplier 2: Mouser; Supplier Part Number 2: 863-MCH4014-TL-H; Packing: Tape and Reel; Polarity: NPN; RoHS: TRUE; Mounting Technology: Surface Mount; ComponentLink1Description: Manufacturer URL; ComponentLink1URL: http://www.onsemi.com/; ComponentLink2Description: Datasheet; ComponentLink2URL: http://www.onsemi.com/pub_link/Collateral/MCH4014-D.PDF; ComponentLink3Description: Package Specification; ComponentLink3URL: http://www.onsemi.com/pub_link/Collateral/ENA0389-D.PDF
footprint ONSC-MCPH-4_V (SOT23, 4-Leads, Body 2x1.6mm, Pitch 0.65mm)
pins: 1 C, 2 E, 3 B, 4 E
text: 2, 4

## MCH4015-TL-H
designator Q?
RF Transistor, 12 V, 100 mA, fT=10 GHz, NPN Single, 4-Pin MCPH, Pb-Free, Tape and Reel; Manufacturer: On Semiconductor; PartNumber: MCH4015-TL-H; fT Min (MHz): 8000; IC Continuous (A): 0.1; PackageReference: MCPH-4; PackageDescription: 4-Pin Small Outline Transistor, Body 2 x 1.6 mm, Pitch 0.65 mm; Supplier 1: Digi-Key; Supplier Part Number 1: MCH4015-TL-H-ND; Supplier 2: Mouser; Supplier Part Number 2: 863-MCH4015-TL-H; Packing: Tape and Reel; Polarity: NPN; RoHS: TRUE; Mounting Technology: Surface Mount; ComponentLink1Description: Manufacturer URL; ComponentLink1URL: http://www.onsemi.com/; ComponentLink2Description: Datasheet; ComponentLink2URL: http://www.onsemi.com/pub_link/Collateral/MCH4015-D.PDF; ComponentLink3Description: Package Specification; ComponentLink3URL: http://www.onsemi.com/pub_link/Collateral/ENA0389-D.PDF
footprint ONSC-MCPH-4_V (SOT23, 4-Leads, Body 2x1.6mm, Pitch 0.65mm)
pins: 1 C, 2 E, 3 B, 4 E
text: 2, 4

## MCH4016-TL-H
designator Q?
RF Transistor, 12 V, 30 mA, fT=10 GHz, NPN Single, 4-Pin MCPH, Pb-Free, Tape and Reel; Manufacturer: On Semiconductor; PartNumber: MCH4016-TL-H; fT Min (MHz): 8000; IC Continuous (A): 0.03; PackageReference: MCPH-4; PackageDescription: 4-Pin Small Outline Transistor, Body 2 x 1.6 mm, Pitch 0.65 mm; Supplier 1: Digi-Key; Supplier Part Number 1: MCH4016-TL-H-ND; Supplier 2: Mouser; Supplier Part Number 2: 863-MCH4016-TL-H; Packing: Tape and Reel; Polarity: NPN; RoHS: TRUE; Mounting Technology: Surface Mount; ComponentLink1Description: Manufacturer URL; ComponentLink1URL: http://www.onsemi.com/; ComponentLink2Description: Datasheet; ComponentLink2URL: http://www.onsemi.com/pub_link/Collateral/MCH4016-D.PDF; ComponentLink3Description: Package Specification; ComponentLink3URL: http://www.onsemi.com/pub_link/Collateral/ENA0389-D.PDF
footprint ONSC-MCPH-4_V (SOT23, 4-Leads, Body 2x1.6mm, Pitch 0.65mm)
pins: 1 E, 2 C, 3 E, 4 B
text: 1, 3

## MCH4017-TL-H
designator Q?
RF Transistor, 12 V, 100 mA, fT=10 GHz, NPN Single, 4-Pin MCPH, Pb-Free, Tape and Reel; Manufacturer: On Semiconductor; PartNumber: MCH4017-TL-H; fT Min (MHz): 8000; IC Continuous (A): 0.1; PackageReference: MCPH-4; PackageDescription: 4-Pin Small Outline Transistor, Body 2 x 1.6 mm, Pitch 0.65 mm; Supplier 1: Digi-Key; Supplier Part Number 1: MCH4017-TL-H-ND; Supplier 2: Mouser; Supplier Part Number 2: 863-MCH4017-TL-H; Packing: Tape and Reel; Polarity: NPN; RoHS: TRUE; Mounting Technology: Surface Mount; ComponentLink1Description: Manufacturer URL; ComponentLink1URL: http://www.onsemi.com/; ComponentLink2Description: Datasheet; ComponentLink2URL: http://www.onsemi.com/pub_link/Collateral/MCH4017-D.PDF; ComponentLink3Description: Package Specification; ComponentLink3URL: http://www.onsemi.com/pub_link/Collateral/ENA0389-D.PDF
footprint ONSC-MCPH-4_V (SOT23, 4-Leads, Body 2x1.6mm, Pitch 0.65mm)
pins: 1 E, 2 C, 3 E, 4 B
text: 1, 3

## MCH4021-TL-E
designator Q?
RF Transistor, 8 V, 150 mA, fT=16 GHz, NPN Single, 4-Pin MCPH, Pb-Free, Tape and Reel; Manufacturer: On Semiconductor; PartNumber: MCH4021-TL-E; fT Min (MHz): 13000; IC Continuous (A): 0.15; PackageReference: MCPH-4; PackageDescription: 4-Pin Small Outline Transistor, Body 2 x 1.6 mm, Pitch 0.65 mm; Supplier 1: Digi-Key; Supplier Part Number 1: MCH4021-TL-E-ND; Supplier 2: Mouser; Supplier Part Number 2: 863-MCH4021-TL-E; Packing: Tape and Reel; Polarity: NPN; RoHS: TRUE; Mounting Technology: Surface Mount; ComponentLink1Description: Manufacturer URL; ComponentLink1URL: http://www.onsemi.com/; ComponentLink2Description: Datasheet; ComponentLink2URL: http://www.onsemi.com/pub_link/Collateral/MCH4021-D.PDF; ComponentLink3Description: Package Specification; ComponentLink3URL: http://www.onsemi.com/pub_link/Collateral/ENA0389-D.PDF
footprint ONSC-MCPH-4_V (SOT23, 4-Leads, Body 2x1.6mm, Pitch 0.65mm)
pins: 1 E, 2 C, 3 E, 4 B
text: 1, 3

## MCH5839-TL-H
designator U?
P-Channel Power MOSFET, -20 V, -1.5 A, 266 mOhm, 5-Pin MCPH, Pb-Free, Tape and Reel; Manufacturer: On Semiconductor; PartNumber: MCH5839-TL-H; Channel Polarity: P Channel; Ciss Typ (pF): 120; Configuration: with Schottky Diode; Coss Typ (pF): 26; Crss Typ (pF): 20; ID Max (A): 1.5; PD Max (W): 0.8; VGS Max (V): 10; VGS(th) Max (V): 1.4; PackageReference: MCPH-5; PackageDescription: 5-Pin Small Outline Transistor, Body 2 x 1.6 mm, Pitch 0.65 mm; Supplier 1: Newark; Supplier Part Number 1: 97W6145; Supplier 2: Mouser; Supplier Part Number 2: 863-MCH5839-TL-H; Package Type: SC-88AFL / MCPH-5; Packing: Tape and Reel; RoHS: Pb-Free; V(BR)DSS Min (V): 20; Mounting Technology: Surface Mount; ComponentLink1Description: Manufacturer URL; ComponentLink1URL: http://www.onsemi.com/; ComponentLink2Description: Datasheet; ComponentLink2URL: http://www.onsemi.cn/pub_link/Collateral/ENA2165-D.PDF; ComponentLink3Description: Package Specification; ComponentLink3URL: http://www.onsemi.com/pub_link/Collateral/ENA1218-D.PDF
footprint ONSC-MCPH-5_V (SOT23, 5-Leads, Body 2x1.6mm, Pitch 0.65mm)
part A pins: 1 G, 2 S, 5 D
part B pins: 3 A, 4 K

## MCH6320-TL-E
designator Q?
P-Channel Power MOSFET, -12 V, -3.5 A, 70 mOhm, Single, 6-Pin MCPH, Pb-Free, Tape and Reel; Manufacturer: On Semiconductor; PartNumber: MCH6320-TL-E; Channel Polarity: P Channel; Ciss Typ (pF): 405; Coss Typ (pF): 145; Crss Typ (pF): 100; ID Max (A): 3.5; PD Max (W): 1.5; V(BR)DSS Min (V): 12; VGS Max (V): 10; VGS(th) Max (V): 1.4; PackageReference: MCPH-6; PackageDescription: 6-Pin Small Outline Transistor, Body 2 x 1.6 mm, Pitch 0.65 mm; Supplier 1: Digi-Key; Supplier Part Number 1: MCH6320-TL-E-ND; Supplier 2: Mouser; Supplier Part Number 2: 863-MCH6320-TL-E; Configuration: Single; Package Type: SC-88FL / MCPH-6; Packing: Tape and Reel; RoHS: Pb-Free; Mounting Technology: Surface Mount; ComponentLink1Description: Manufacturer URL; ComponentLink1URL: http://www.onsemi.com/; ComponentLink2Description: Datasheet; ComponentLink2URL: http://www.onsemi.cn/pub_link/Collateral/MCH6320-D.PDF; ComponentLink3Description: Package Specification; ComponentLink3URL: http://www.onsemi.com/pub_link/Collateral/ENA1601-D.PDF
footprint ONSC-MCPH-6_V (SOT23, 6-Leads, Body 2x1.6mm, Pitch 0.65mm)
pins: 1 D, 2 D, 3 G, 4 S, 5 D, 6 D
text: 1, 2, 5, 6

## MCH6321-TL-E
designator Q?
P-Channel Power MOSFET, -20 V, -4 A, 83 mOhm, Single, 6-Pin MCPH, Pb-Free, Tape and Reel; Manufacturer: On Semiconductor; PartNumber: MCH6321-TL-E; Channel Polarity: P Channel; Ciss Typ (pF): 375; Coss Typ (pF): 77; Crss Typ (pF): 58; ID Max (A): 4; PD Max (W): 1.5; V(BR)DSS Min (V): 20; VGS Max (V): 10; VGS(th) Max (V): 1.3; PackageReference: MCPH-6; PackageDescription: 6-Pin Small Outline Transistor, Body 2 x 1.6 mm, Pitch 0.65 mm; Supplier 1: Digi-Key; Supplier Part Number 1: MCH6321-TL-E-ND; Supplier 2: Mouser; Supplier Part Number 2: 863-MCH6321-TL-E; Configuration: Single; Package Type: SC-88FL / MCPH-6; Packing: Tape and Reel; RoHS: Pb-Free; Mounting Technology: Surface Mount; ComponentLink1Description: Manufacturer URL; ComponentLink1URL: http://www.onsemi.com/; ComponentLink2Description: Datasheet; ComponentLink2URL: http://www.onsemi.cn/pub_link/Collateral/MCH6321-D.PDF; ComponentLink3Description: Package Specification; ComponentLink3URL: http://www.onsemi.com/pub_link/Collateral/ENA1601-D.PDF
footprint ONSC-MCPH-6_V (SOT23, 6-Leads, Body 2x1.6mm, Pitch 0.65mm)
pins: 1 D, 2 D, 3 G, 4 S, 5 D, 6 D
text: 1, 2, 5, 6

## MCH6331-TL-H
designator Q?
P-Channel Power MOSFET, -30 V, -3.5 A, 98 mOhm, Single, 6-Pin MCPH, Pb-Free, Tape and Reel; Manufacturer: On Semiconductor; PartNumber: MCH6331-TL-H; Channel Polarity: P Channel; Ciss Typ (pF): 250; Coss Typ (pF): 65; Crss Typ (pF): 46; ID Max (A): 3.5; PD Max (W): 1.5; V(BR)DSS Min (V): 30; VGS Max (V): 20; VGS(th) Max (V): 2.6; PackageReference: MCPH-6; PackageDescription: 6-Pin Small Outline Transistor, Body 2 x 1.6 mm, Pitch 0.65 mm; Supplier 1: Digi-Key; Supplier Part Number 1: MCH6331-TL-H-ND; Supplier 2: Mouser; Supplier Part Number 2: 863-MCH6331-TL-H; Configuration: Single; Package Type: SC-88FL / MCPH-6; Packing: Tape and Reel; RoHS: Pb-Free; Mounting Technology: Surface Mount; ComponentLink1Description: Manufacturer URL; ComponentLink1URL: http://www.onsemi.com/; ComponentLink2Description: Datasheet; ComponentLink2URL: http://www.onsemi.cn/pub_link/Collateral/MCH6331-D.PDF; ComponentLink3Description: Package Specification; ComponentLink3URL: http://www.onsemi.com/pub_link/Collateral/ENA1601-D.PDF
footprint ONSC-MCPH-6_V (SOT23, 6-Leads, Body 2x1.6mm, Pitch 0.65mm)
pins: 1 D, 2 D, 3 G, 4 S, 5 D, 6 D
text: 1, 2, 5, 6

## MCH6336-TL-E
designator Q?
P-Channel Power MOSFET, -12 V, -5 A, 43 mOhm, Single, 6-Pin MCPH, Pb-Free, Tape and Reel; Manufacturer: On Semiconductor; PartNumber: MCH6336-TL-E; Channel Polarity: P Channel; Ciss Typ (pF): 660; Coss Typ (pF): 210; Crss Typ (pF): 155; ID Max (A): 5; PD Max (W): 1.5; V(BR)DSS Min (V): 12; VGS Max (V): 10; VGS(th) Max (V): 1.4; PackageReference: MCPH-6; PackageDescription: 6-Pin Small Outline Transistor, Body 2 x 1.6 mm, Pitch 0.65 mm; Supplier 1: Newark; Supplier Part Number 1: 45W8491; Supplier 2: Mouser; Supplier Part Number 2: 863-MCH6336-TL-E; Configuration: Single; Package Type: SC-88FL / MCPH-6; Packing: Tape and Reel; RoHS: Pb-Free; Mounting Technology: Surface Mount; ComponentLink1Description: Manufacturer URL; ComponentLink1URL: http://www.onsemi.com/; ComponentLink2Description: Datasheet; ComponentLink2URL: http://www.onsemi.cn/pub_link/Collateral/MCH6336-D.PDF; ComponentLink3Description: Package Specification; ComponentLink3URL: http://www.onsemi.com/pub_link/Collateral/ENA1601-D.PDF
footprint ONSC-MCPH-6_V (SOT23, 6-Leads, Body 2x1.6mm, Pitch 0.65mm)
pins: 1 D, 2 D, 3 G, 4 S, 5 D, 6 D
text: 1, 2, 5, 6

## MCH6336-TL-H
designator Q?
P-Channel Power MOSFET, -12 V, -5 A, 43 mOhm, Single, 6-Pin MCPH, Pb-Free, Tape and Reel; Manufacturer: On Semiconductor; PartNumber: MCH6336-TL-H; Channel Polarity: P Channel; Ciss Typ (pF): 660; Coss Typ (pF): 210; Crss Typ (pF): 155; ID Max (A): 5; PD Max (W): 1.5; V(BR)DSS Min (V): 12; VGS Max (V): 10; VGS(th) Max (V): 1.4; PackageReference: MCPH-6; PackageDescription: 6-Pin Small Outline Transistor, Body 2 x 1.6 mm, Pitch 0.65 mm; Supplier 1: Digi-Key; Supplier Part Number 1: MCH6336-TL-H-ND; Supplier 2: Mouser; Supplier Part Number 2: 863-MCH6336-TL-H; Configuration: Single; Package Type: SC-88FL / MCPH-6; Packing: Tape and Reel; RoHS: Pb-Free; Mounting Technology: Surface Mount; ComponentLink1Description: Manufacturer URL; ComponentLink1URL: http://www.onsemi.com/; ComponentLink2Description: Datasheet; ComponentLink2URL: http://www.onsemi.cn/pub_link/Collateral/MCH6336-D.PDF; ComponentLink3Description: Package Specification; ComponentLink3URL: http://www.onsemi.com/pub_link/Collateral/ENA1601-D.PDF
footprint ONSC-MCPH-6_V (SOT23, 6-Leads, Body 2x1.6mm, Pitch 0.65mm)
pins: 1 D, 2 D, 3 G, 4 S, 5 D, 6 D
text: 1, 2, 5, 6

## MCH6337-TL-E
designator Q?
P-Channel Power MOSFET, -20 V, -4.5 A, 49 mOhm, Single, 6-Pin MCPH, Pb-Free, Tape and Reel; Manufacturer: On Semiconductor; PartNumber: MCH6337-TL-E; Channel Polarity: P Channel; Ciss Typ (pF): 670; Coss Typ (pF): 130; Crss Typ (pF): 94; ID Max (A): 4.5; PD Max (W): 1.5; V(BR)DSS Min (V): 20; VGS Max (V): 10; VGS(th) Max (V): 1.3; PackageReference: MCPH-6; PackageDescription: 6-Pin Small Outline Transistor, Body 2 x 1.6 mm, Pitch 0.65 mm; Supplier 1: Digi-Key; Supplier Part Number 1: 869-1177-2-ND; Supplier 2: Digi-Key; Supplier Part Number 2: 869-1177-1-ND; Supplier 3: Digi-Key; Supplier Part Number 3: 869-1177-6-ND; Supplier 4: Newark; Supplier Part Number 4: 45W8492; Supplier 5: Mouser; Supplier Part Number 5: 863-MCH6337-TL-E; Configuration: Single; Package Type: SC-88FL / MCPH-6; Packing: Tape and Reel; RoHS: Pb-Free; Mounting Technology: Surface Mount; ComponentLink1Description: Manufacturer URL; ComponentLink1URL: http://www.onsemi.com/; ComponentLink2Description: Datasheet; ComponentLink2URL: http://www.onsemi.cn/pub_link/Collateral/MCH6337-D.PDF; ComponentLink3Description: Package Specification; ComponentLink3URL: http://www.onsemi.com/pub_link/Collateral/ENA1601-D.PDF
footprint ONSC-MCPH-6_V (SOT23, 6-Leads, Body 2x1.6mm, Pitch 0.65mm)
pins: 1 D, 2 D, 3 G, 4 S, 5 D, 6 D
text: 1, 2, 5, 6

## MCH6337-TL-H
designator Q?
P-Channel Power MOSFET, -20 V, -4.5 A, 49 mOhm, Single, 6-Pin MCPH, Pb-Free, Tape and Reel; Manufacturer: On Semiconductor; PartNumber: MCH6337-TL-H; Channel Polarity: P Channel; Ciss Typ (pF): 670; Coss Typ (pF): 130; Crss Typ (pF): 94; ID Max (A): 4.5; PD Max (W): 1.5; V(BR)DSS Min (V): 20; VGS Max (V): 10; VGS(th) Max (V): 1.3; PackageReference: MCPH-6; PackageDescription: 6-Pin Small Outline Transistor, Body 2 x 1.6 mm, Pitch 0.65 mm; Supplier 1: Digi-Key; Supplier Part Number 1: MCH6337-TL-H-ND; Supplier 2: Mouser; Supplier Part Number 2: 863-MCH6337-TL-H; Configuration: Single; Package Type: SC-88FL / MCPH-6; Packing: Tape and Reel; RoHS: Pb-Free; Mounting Technology: Surface Mount; ComponentLink1Description: Manufacturer URL; ComponentLink1URL: http://www.onsemi.com/; ComponentLink2Description: Datasheet; ComponentLink2URL: http://www.onsemi.cn/pub_link/Collateral/MCH6337-D.PDF; ComponentLink3Description: Package Specification; ComponentLink3URL: http://www.onsemi.com/pub_link/Collateral/ENA1601-D.PDF
footprint ONSC-MCPH-6_V (SOT23, 6-Leads, Body 2x1.6mm, Pitch 0.65mm)
pins: 1 D, 2 D, 3 G, 4 S, 5 D, 6 D
text: 1, 2, 5, 6

## MCH6341-TL-E
designator Q?
P-Channel Power MOSFET, -30 V, -5 A, 59 mOhm, Single, 6-Pin MCPH, Pb-Free, Tape and Reel; Manufacturer: On Semiconductor; PartNumber: MCH6341-TL-E; Channel Polarity: P Channel; Ciss Typ (pF): 430; Coss Typ (pF): 105; Crss Typ (pF): 75; ID Max (A): 5; PD Max (W): 1.5; V(BR)DSS Min (V): 30; VGS Max (V): 20; VGS(th) Max (V): 2.6; PackageReference: MCPH-6; PackageDescription: 6-Pin Small Outline Transistor, Body 2 x 1.6 mm, Pitch 0.65 mm; Supplier 1: Digi-Key; Supplier Part Number 1: MCH6341-TL-E-ND; Supplier 2: Mouser; Supplier Part Number 2: 863-MCH6341-TL-E; Configuration: Single; Package Type: SC-88FL / MCPH-6; Packing: Tape and Reel; RoHS: Pb-Free; Mounting Technology: Surface Mount; ComponentLink1Description: Manufacturer URL; ComponentLink1URL: http://www.onsemi.com/; ComponentLink2Description: Datasheet; ComponentLink2URL: http://www.onsemi.cn/pub_link/Collateral/MCH6341-D.PDF; ComponentLink3Description: Package Specification; ComponentLink3URL: http://www.onsemi.com/pub_link/Collateral/ENA1601-D.PDF
footprint ONSC-MCPH-6_V (SOT23, 6-Leads, Body 2x1.6mm, Pitch 0.65mm)
pins: 1 D, 2 D, 3 G, 4 S, 5 D, 6 D
text: 1, 2, 5, 6